# EAGLE library part MCP7940M (library adv-w20)
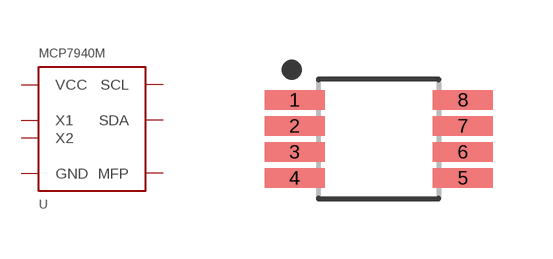
[diagram p3: symbol with the pads of SOP65P490X110-8N; footprint SOP65P490X110-8N]

Designator prefix -

## MCP7940M-MSOP8  [SOP65P490X110-8N]
1  X1
2  X2
4  GND
5  SDA
6  SCL
7  MFP
8  VCC

## Footprint SOP65P490X110-8N (pad centres in mm)
8-SOP, 0.65 mm pitch, 4.90 mm span, 3.00 X 3.00 X 1.10 mm body 8-pin SOP package with 0.65 mm pitch, 4.90 mm span with body size 3.00 X 3.00 X 1.10 mm
smd 1.503 x 0.492: 1 -2.104,0.975; 2 -2.104,0.325; 3 -2.104,-0.325; 4 -2.104,-0.975; 5 2.104,-0.975; 6 2.104,-0.325; 7 2.104,0.325; 8 2.104,0.975